# Altium footprint library devrepcb.PcbLib: 11 footprints
Each footprint in its own frame and in the unit in brackets; x right, y up, seen from the top. Pads: shape width x height; smd on the part's side, far side on the other; paste and mask are expansions set on the pad; w line width, h text height; cw(c..) or ccw(c..) is an arc to the next point about the centre after c.
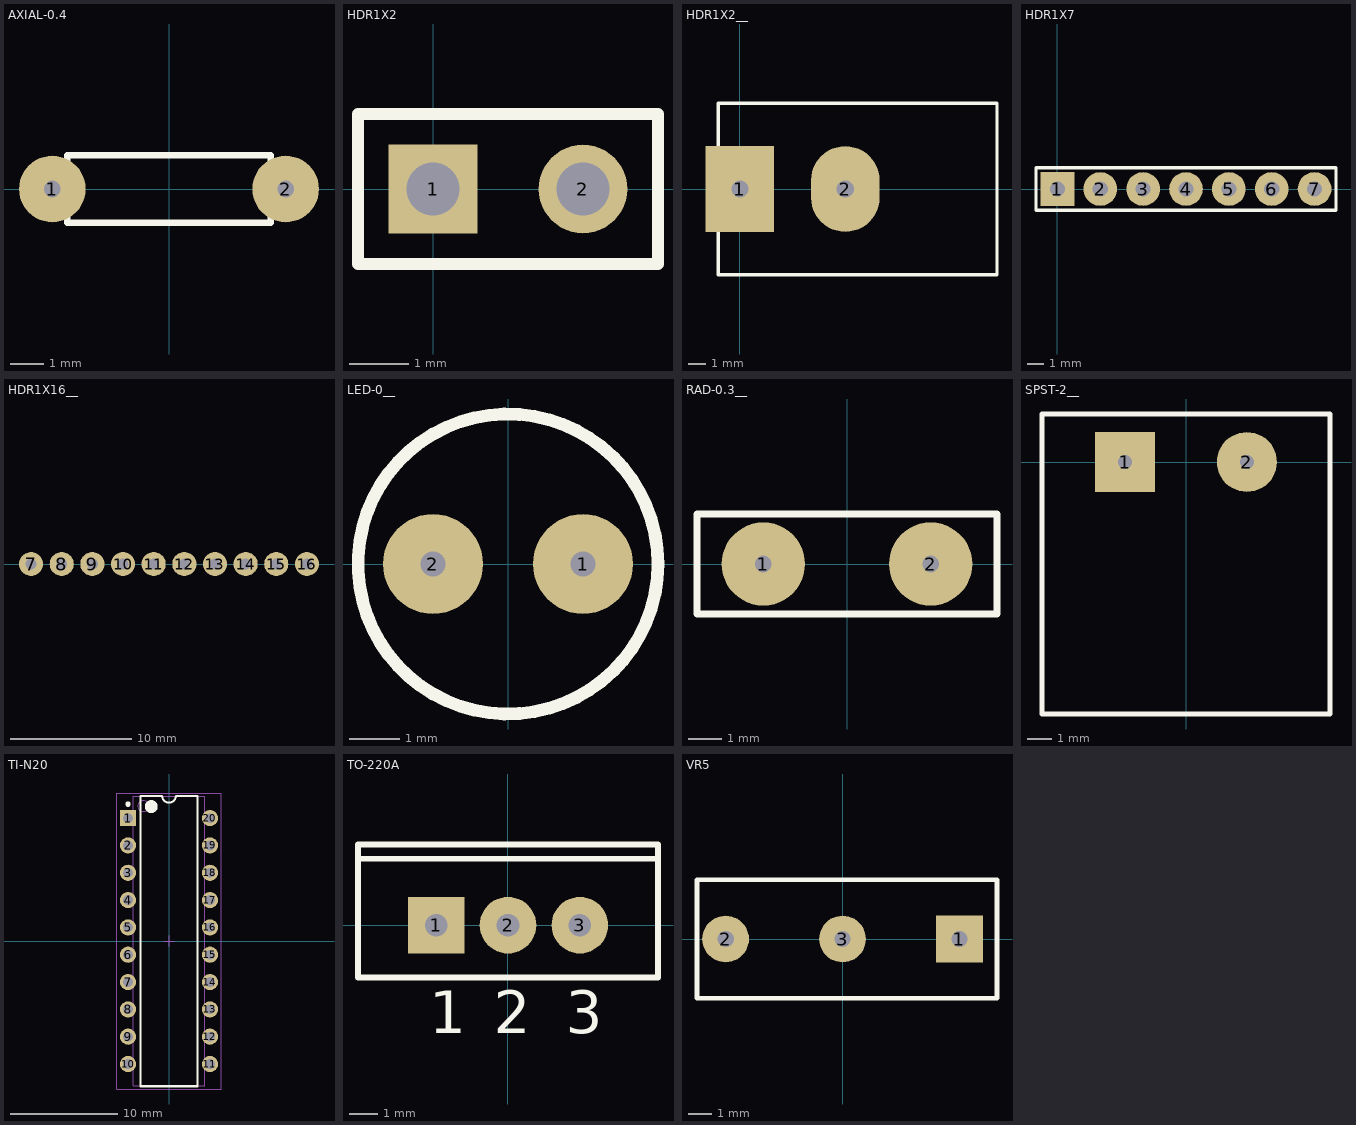
[diagram p0: the footprints below, top view; thin cyan lines are the x and y axes]

## AXIAL-0.4 [mm] "Axial Device, Thru-Hole; 2 Leads; 0.4 in Pin Spacing"
height 2.032
pads (2):
  round 2 hole 0.5: 1(-3.5,0) 2(3.5,0)
Top Overlay:
  lines w0.2: -4.064,0 -3.048,0 ; 3.048,0 4.064,0 ; -3.048,-1.016 -3.048,1.016 3.048,1.016 3.048,-1.016 -3.048,-1.016
3D body "Resistor 0.25W.x_t": height 1.11, standoff -3, extent -3.999,-1.11 4,1.11

## HDR1X2 [mm] "Connector; Header; 2 Position"
pads (2):
  rect 1.5x1.5 hole 0.9: 1(0,0)
  round 1.5 hole 0.9: 2(2.54,0)
Top Overlay:
  lines w0.2: -1.27,-1.27 -1.27,1.27 3.81,1.27 3.81,-1.27 -1.27,-1.27

## HDR1X2__ [mm] "Connector; Header; 2 Position"
pads (2):
  rect 4x5 hole 1: 1(0,0)
  oval 4x5 hole 1: 2(6.15,0)
Top Overlay:
  lines w0.2: -1.27,-5 -1.27,5 15,5 15,-5 -1.27,-5
3D body "Jack 12V DC.SLDPRT": height 12, standoff -3.1, extent -0.7,-4.4 13.5,5.4

## HDR1X7 [mm] "Connector; Header; 7 Position"
pads (7):
  rect 2x2 hole 0.9: 1(0,0)
  round 2 hole 0.9: 2(2.54,0) 3(5.08,0) 4(7.62,0) 5(10.16,0) 6(12.7,0) 7(15.24,0)
Top Overlay:
  lines w0.2: -1.27,-1.27 16.51,-1.27 16.51,1.27 -1.27,1.27 -1.27,-1.27

## HDR1X16__ [mm] "Connector; Header; 16 Position"
pads (10):
  round 2 hole 0.9: 7(15.24,0) 8(17.78,0) 9(20.32,0) 10(22.86,0) 11(25.4,0) 12(27.94,0) 13(30.48,0) 14(33.02,0) 15(35.56,0) 16(38.1,0)

## LED-0__ [mm] "LED; 2 Leads"
pads (2):
  round 2 hole 0.5: 1(1.5,0) 2(-1.5,0)
Top Overlay:
  circle w0.254: c0,0 r3
3D body "??307?.STEP": height 10, standoff -5, extent -3,-3 3,3

## RAD-0.3__ [mm] "Radial Cap, Thru-Hole; 2 Leads; 0.3 in Pin Spacing"
height 6
pads (2):
  round 2.5 hole 0.5: 1(-2.51,0) 2(2.51,0)
Top Overlay:
  lines w0.2: -4.5,-1.5 -4.5,1.5 4.5,1.5 4.5,-1.5 -4.5,-1.5
3D body "47nF Film Capacitor MKT.SLDPRT": height 8.05, standoff -13.5, extent -3.55,-1.15 3.55,1.15

## SPST-2__ [mm]
pads (2):
  rect 2.5x2.5 hole 0.6: 1(-2.54,0)
  round 2.5 hole 0.6: 2(2.54,0)
Top Overlay:
  lines w0.2: -6,-10.5 6,-10.5 6,2 -6,2 -6,-10.5
3D body "TactSwitch.stp": height 9, standoff -1.89

## TI-N20 [mm] "DIP, 20-Leads, Body 25.4x6.35 mm, Pitch 2.54 mm"
height 5.08
pads (20):
  rect 1.5x1.5 hole 0.9: 1(-3.81,11.43)
  round 1.5 hole 0.9: 2(-3.81,8.89) 3(-3.81,6.35) 4(-3.81,3.81) 5(-3.81,1.27) 6(-3.81,-1.27) 7(-3.81,-3.81) 8(-3.81,-6.35) 9(-3.81,-8.89) 10(-3.81,-11.43) 11(3.81,-11.43) 12(3.81,-8.89) 13(3.81,-6.35) 14(3.81,-3.81) 15(3.81,-1.27) 16(3.81,1.27) 17(3.81,3.81) 18(3.81,6.35) 19(3.81,8.89) 20(3.81,11.43)
Top Overlay:
  circle w0.6: c-1.65,12.5 r0.3
  circle w0.25: c-3.81,12.73 r0.125
  lines w0.2: -2.65,-13.5 2.65,-13.5 2.65,13.5 0.635,13.5 cw(c0,13.5) -0.635,13.5 -2.65,13.5 -2.65,-13.5
Mechanical 13:
  circle w0.1: c-2.4,12.55 r0.5
  lines w0.1: -3.3,-13.45 3.3,-13.45 3.3,13.45 -3.3,13.45 -3.3,-13.45
Mechanical 15:
  lines w0.05: -4.85,-13.75 4.85,-13.75 4.85,13.75 -4.85,13.75 -4.85,-13.75
  lines w0.1: -0.5,0 0.5,0 ; 0,-0.5 0,0.5
3D body: height 5.08, standoff 0.51, extent -3.3,-13.45 3.3,13.45
3D body: height 0, standoff -1.6, extent 3.675,11.07 3.945,11.79
3D body: height 2.93, standoff 2.66, extent 3.3,10.93 3.945,11.93
3D body: height 2.66, standoff 0, extent 3.675,10.93 3.945,11.93
3D body: height 0, standoff -1.6, extent 3.675,8.53 3.945,9.25
3D body: height 2.93, standoff 2.66, extent 3.3,8.39 3.945,9.39
3D body: height 2.66, standoff 0, extent 3.675,8.39 3.945,9.39
3D body: height 0, standoff -1.6, extent 3.675,5.99 3.945,6.71
3D body: height 2.93, standoff 2.66, extent 3.3,5.85 3.945,6.85
3D body: height 2.66, standoff 0, extent 3.675,5.85 3.945,6.85
3D body: height 0, standoff -1.6, extent 3.675,3.45 3.945,4.17
3D body: height 2.93, standoff 2.66, extent 3.3,3.31 3.945,4.31
3D body: height 2.66, standoff 0, extent 3.675,3.31 3.945,4.31
3D body: height 0, standoff -1.6, extent 3.675,0.91 3.945,1.63
3D body: height 2.93, standoff 2.66, extent 3.3,0.77 3.945,1.77
3D body: height 2.66, standoff 0, extent 3.675,0.77 3.945,1.77
3D body: height 0, standoff -1.6, extent 3.675,-1.63 3.945,-0.91
3D body: height 2.93, standoff 2.66, extent 3.3,-1.77 3.945,-0.77
3D body: height 2.66, standoff 0, extent 3.675,-1.77 3.945,-0.77
3D body: height 0, standoff -1.6, extent 3.675,-4.17 3.945,-3.45
3D body: height 2.93, standoff 2.66, extent 3.3,-4.31 3.945,-3.31
3D body: height 2.66, standoff 0, extent 3.675,-4.31 3.945,-3.31
3D body: height 0, standoff -1.6, extent 3.675,-6.71 3.945,-5.99
3D body: height 2.93, standoff 2.66, extent 3.3,-6.85 3.945,-5.85
3D body: height 2.66, standoff 0, extent 3.675,-6.85 3.945,-5.85
3D body: height 0, standoff -1.6, extent 3.675,-9.25 3.945,-8.53
3D body: height 2.93, standoff 2.66, extent 3.3,-9.39 3.945,-8.39
3D body: height 2.66, standoff 0, extent 3.675,-9.39 3.945,-8.39
3D body: height 0, standoff -1.6, extent 3.675,-11.79 3.945,-11.07
3D body: height 2.93, standoff 2.66, extent 3.3,-11.93 3.945,-10.93
3D body: height 2.66, standoff 0, extent 3.675,-11.93 3.945,-10.93
3D body: height 0, standoff -1.6, extent -3.945,-11.79 -3.675,-11.07
3D body: height 2.93, standoff 2.66, extent -3.945,-11.93 -3.3,-10.93
3D body: height 2.66, standoff 0, extent -3.945,-11.93 -3.675,-10.93
3D body: height 0, standoff -1.6, extent -3.945,-9.25 -3.675,-8.53
3D body: height 2.93, standoff 2.66, extent -3.945,-9.39 -3.3,-8.39
3D body: height 2.66, standoff 0, extent -3.945,-9.39 -3.675,-8.39
3D body: height 0, standoff -1.6, extent -3.945,-6.71 -3.675,-5.99
3D body: height 2.93, standoff 2.66, extent -3.945,-6.85 -3.3,-5.85
3D body: height 2.66, standoff 0, extent -3.945,-6.85 -3.675,-5.85
3D body: height 0, standoff -1.6, extent -3.945,-4.17 -3.675,-3.45
3D body: height 2.93, standoff 2.66, extent -3.945,-4.31 -3.3,-3.31
3D body: height 2.66, standoff 0, extent -3.945,-4.31 -3.675,-3.31
3D body: height 0, standoff -1.6, extent -3.945,-1.63 -3.675,-0.91
3D body: height 2.93, standoff 2.66, extent -3.945,-1.77 -3.3,-0.77
3D body: height 2.66, standoff 0, extent -3.945,-1.77 -3.675,-0.77
3D body: height 0, standoff -1.6, extent -3.945,0.91 -3.675,1.63
3D body: height 2.93, standoff 2.66, extent -3.945,0.77 -3.3,1.77
3D body: height 2.66, standoff 0, extent -3.945,0.77 -3.675,1.77
3D body: height 0, standoff -1.6, extent -3.945,3.45 -3.675,4.17
3D body: height 2.93, standoff 2.66, extent -3.945,3.31 -3.3,4.31
3D body: height 2.66, standoff 0, extent -3.945,3.31 -3.675,4.31
3D body: height 0, standoff -1.6, extent -3.945,5.99 -3.675,6.71
3D body: height 2.93, standoff 2.66, extent -3.945,5.85 -3.3,6.85
3D body: height 2.66, standoff 0, extent -3.945,5.85 -3.675,6.85
3D body: height 0, standoff -1.6, extent -3.945,8.53 -3.675,9.25
3D body: height 2.93, standoff 2.66, extent -3.945,8.39 -3.3,9.39
3D body: height 2.66, standoff 0, extent -3.945,8.39 -3.675,9.39
3D body: height 0, standoff -1.6, extent -3.945,11.07 -3.675,11.79
3D body: height 2.93, standoff 2.66, extent -3.945,10.93 -3.3,11.93
3D body: height 2.66, standoff 0, extent -3.945,10.93 -3.675,11.93

## TO-220A [mm] "TO, Thru-Hole, Vertical, Heatsink Mounted; 3 In-Line Leads; Pitch 2.54 mm"
height 19.7
pads (3):
  rect 2x2 hole 0.8: 1(-2.54,0)
  round 2 hole 0.8: 2(0,0) 3(2.54,0)
Top Overlay:
  lines w0.2: -5.3,2.35 5.3,2.35 ; -5.3,-1.85 -5.3,2.85 5.3,2.85 5.3,-1.85 -5.3,-1.85
  text "3" at 2.04,-3.825 h1.5
  text "2" at -0.5,-3.825 h1.5
  text "1" at -2.79,-3.825 h1.5
3D body "7508.SLDPRT": height 21, standoff -7.2, extent -5,-2.01 5,2

## VR5 [mm] "Thru-Hole; 3 Leads"
pads (3):
  rect 2x2 hole 0.7: 1(5,0)
  round 2 hole 0.7: 2(-5,0) 3(0,0)
Top Overlay:
  lines w0.2: -6.223,-2.54 -6.223,2.54 6.604,2.54 6.604,-0.254 6.604,-2.54 -6.223,-2.54